# EAGLE library part M20-SNAP (library comma.ai)
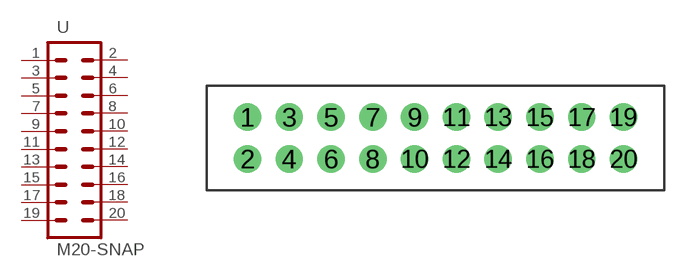
[diagram p15: symbol with the pads of M20-SNAP; footprint M20-SNAP]

Designator prefix -

## M20-SNAP  [M20-SNAP]
1  1  pas
2  2  pas
3  3  pas
4  4  pas
5  5  pas
6  6  pas
7  7  pas
8  8  pas
9  9  pas
10  10  pas
11  11  pas
12  12  pas
13  13  pas
14  14  pas
15  15  pas
16  16  pas
17  17  pas
18  18  pas
19  19  pas
20  20  pas

## Footprint M20-SNAP (pad centres in mm)
drill 0.8: 1 0,0; 2 0,-2; 3 2,0; 4 2,-2; 5 4,0; 6 4,-2; 7 6,0; 8 6,-2; 9 8,0; 10 8,-2; 11 10,0; 12 10,-2; 13 12,0; 14 12,-2; 15 14,0; 16 14,-2; 17 16,0; 18 16,-2; 19 18,0; 20 18,-2